# Altium footprint library ZICM2410 Eva Kit PCB 5.0.PcbLib: 38 footprints (part 3 of 3)
Each footprint in its own frame and in the unit in brackets; x right, y up, seen from the top. Pads: shape width x height; smd on the part's side, far side on the other; paste and mask are expansions set on the pad; w line width, h text height; cw(c..) or ccw(c..) is an arc to the next point about the centre after c.
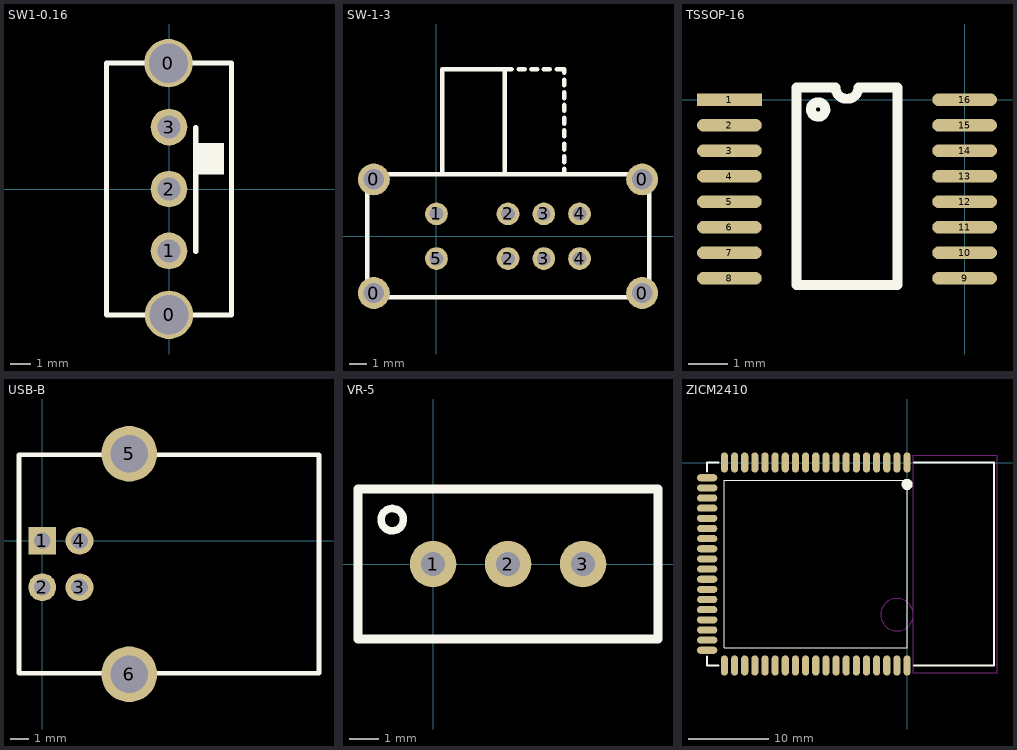
[diagram p2: the footprints below, top view; thin cyan lines are the x and y axes]

## SW1-0.16 [mil]
pads (5):
  round 92 hole 75: 0(-1,240) 0(0,-240)
  round 70 hole 43.31: 1(0,-118.11) 2(0,0) 3(0,118.11)
Top Overlay:
  region: 55,88 55,28 105,28 105,88
  lines w10: -1,240 -119,240 -119,-240 0,-240 119,-240 119,240 1,240 ; 51,-119 51,117.22

## SW-1-3 [mil]
height 35
pads (12):
  round 70 hole 45: 0(-137.8,-125) 0(-137.8,125) 0(452.76,-125) 0(452.76,125)
  round 50 hole 30: 1(0,49.21) 2(157.48,-49.21) 2(157.48,49.21) 3(236.22,-49.21) 3(236.22,49.21) 4(314.96,-49.21) 4(314.96,49.21) 5(0,-49.21)
Top Overlay:
  lines w10: 13.2,136 13.2,368 150.2,368 ; 150.2,136 150.2,368 ; 165.2,368 150.2,368 ; 181.2,368 194.2,368 ; 209.2,368 222.2,368 ; 236.2,368 249.2,368 ; 265.2,368 278.2,368 ; 281.2,136 281.2,149 ; 281.2,163 281.2,176 ; 281.2,191 281.2,204 ; 281.2,220 281.2,233 ; 281.2,248 281.2,261 ; 281.2,276 281.2,289 ; 281.2,304 281.2,317 ; 281.2,332 281.2,345 ; 281.2,360 281.2,368 ; -152.8,-134 468.2,-134 468.2,136 -152.8,136 -152.8,-134

## TSSOP-16 [mil]
pads (16):
  rect 65x12.5 smd: 1(-236,0)
  oval 65x12.5 smd: 2(-236,-25.59) 3(-236,-51.18) 4(-236,-76.77) 5(-236,-102.36) 6(-236,-127.95) 7(-236,-153.54) 8(-236,-179.13) 9(0,-179.13) 10(0,-153.54) 11(0,-127.95) 12(0,-102.36) 13(0,-76.77) 14(0,-51.18) 15(0,-25.59) 16(0,0)
Top Overlay:
  lines w10: -147,-17 cw(c-147,-9.79) -145.98,-16.93 ; -168.5,-186 -168.5,12.5 -129.54,12.5 ccw(c-118,12.5) -106.46,12.5 -67.5,12.5 -67.5,-186 -168.5,-186

## USB-B [mil]
pads (6):
  rect 60x60 hole 36: 1(0,0)
  round 60 hole 36: 2(0,-100) 3(80,-100) 4(80,0)
  round 120 hole 80: 5(187,187) 6(187,-287)
Top Overlay:
  lines w10: -50,-285 190,-285 595,-285 595,185 190,185 -50,185 -50,-285

## VR-5 [mil]
height 374.02
pads (3):
  round 62 hole 32: 1(0,0) 2(100,0) 3(200,0)
Top Overlay:
  lines w10: -40,55 cw(c-54.35,59.1) -39.52,57.45
  lines w12: -100,-100 -100,100 300,100 300,0 300,-100 -100,-100

## ZICM2410 [mil]
height 130
pads (56):
  oval 35x100 smd: 1(0,0) 2(-50,0) 3(-100,0) 4(-150,0) 5(-200,0) 6(-250,0) 7(-300,0) 8(-350,0) 9(-400,0) 10(-450,0) 11(-500,0) 12(-550,0) 13(-600,0) 14(-650,0) 15(-700,0) 16(-750,0) 17(-800,0) 18(-850,0) 19(-900,0) 38(-900,-1000) 39(-850,-1000) 40(-800,-1000) 41(-750,-1000) 42(-700,-1000) 43(-650,-1000) 44(-600,-1000) 45(-550,-1000) 46(-500,-1000) 47(-450,-1000) 48(-400,-1000) 49(-350,-1000) 50(-300,-1000) 51(-250,-1000) 52(-200,-1000) 53(-150,-1000) 54(-100,-1000) 55(-50,-1000) 56(0,-1000)
  oval 100x35 smd: 20(-985,-75) 21(-985,-125) 22(-985,-175) 23(-985,-225) 24(-985,-275) 25(-985,-325) 26(-985,-375) 27(-985,-425) 28(-985,-475) 29(-985,-525) 30(-985,-575) 31(-985,-625) 32(-985,-675) 33(-985,-725) 34(-985,-775) 35(-985,-825) 36(-985,-875) 37(-985,-925)
Top Overlay:
  circle w25: c0,-108 r15
  lines w5: -900,-912 0,-912 0,-88 -900,-88 -900,-912
  lines w10: -985,-955 -985,-1000 -930,-1000 ; -985,-45 -985,0 -930,0 ; 35,-1000 428,-1000 428,0 35,0
Keep-Out Layer:
  circle w6: c-50,-750 r80
  lines w6: 30,-1035 30,35 443,35 443,-1035 30,-1035